# Altium footprint library Footprint.PcbLib: 240 footprints (part 14 of 15)
Each footprint in its own frame and in the unit in brackets; x right, y up, seen from the top. Pads: shape width x height; smd on the part's side, far side on the other; paste and mask are expansions set on the pad; w line width, h text height; cw(c..) or ccw(c..) is an arc to the next point about the centre after c.
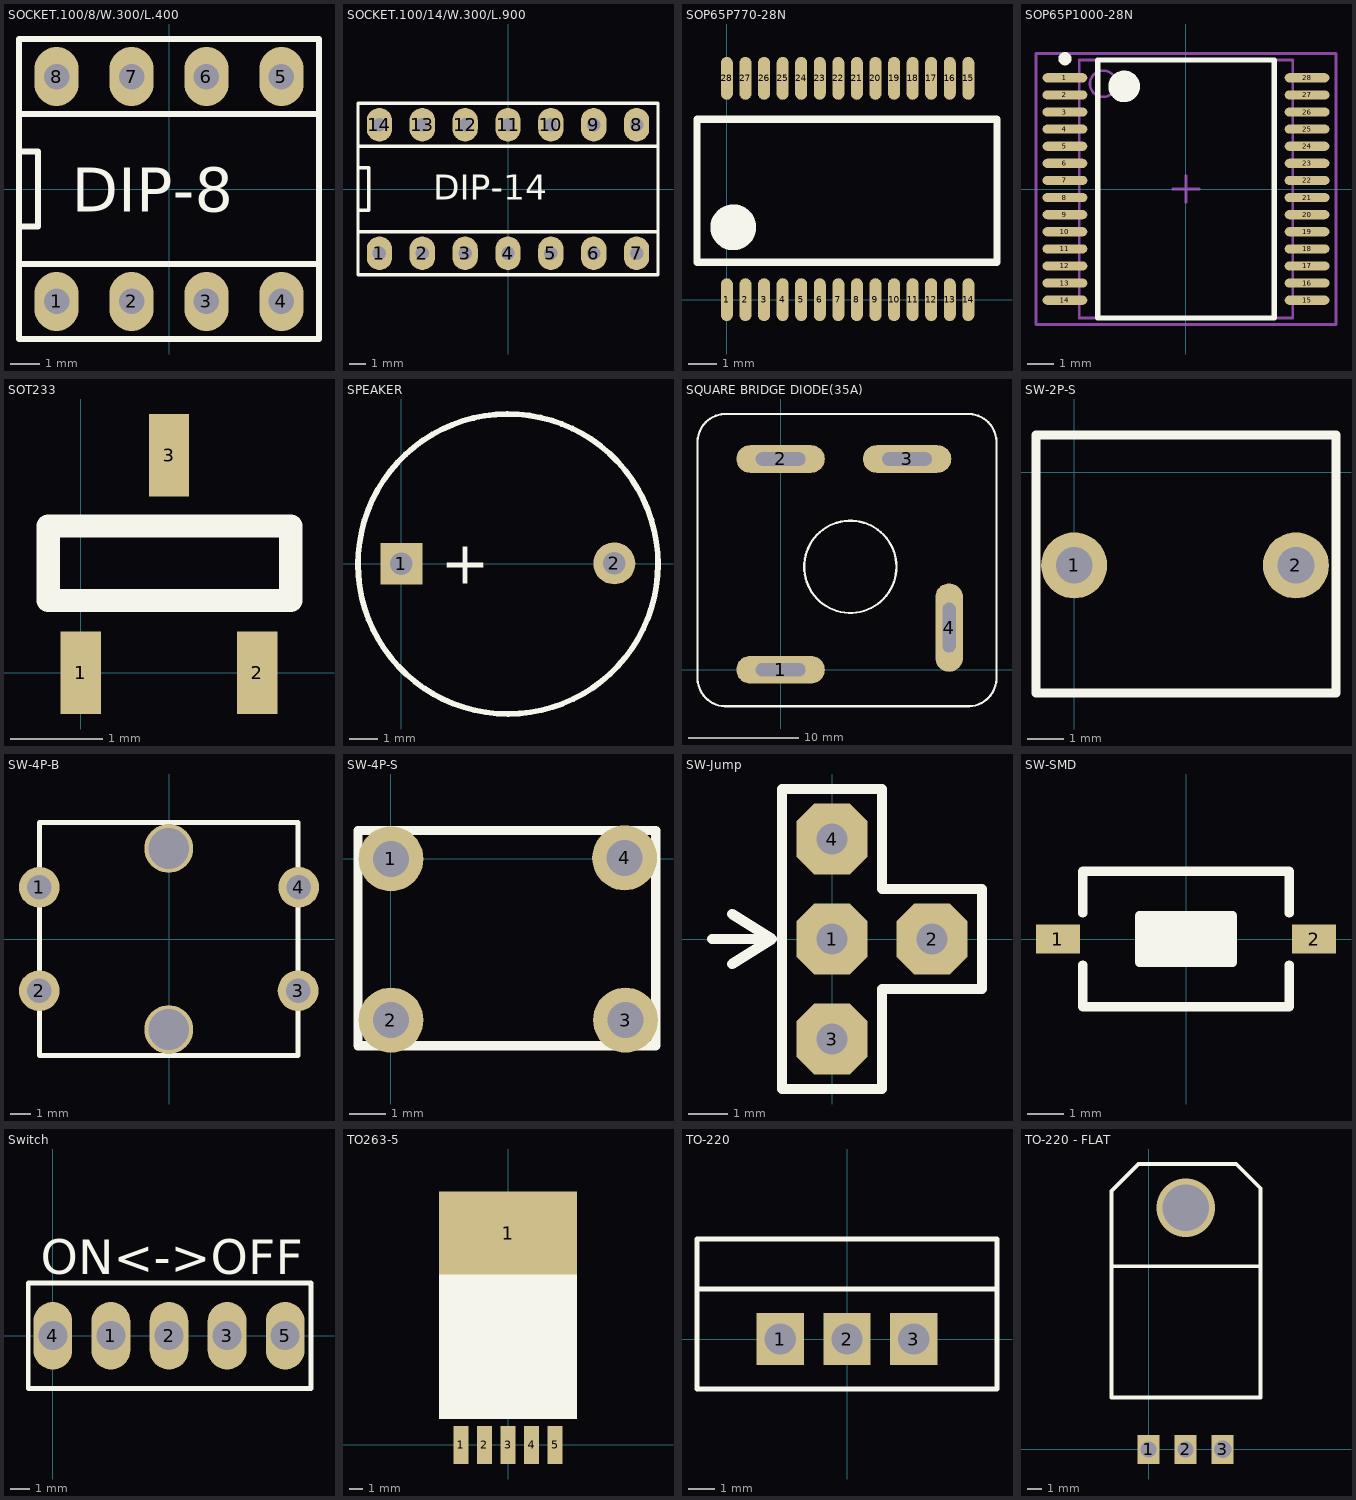
[diagram p13: the footprints below, top view; thin cyan lines are the x and y axes]

## SOCKET.100/8/W.300/L.400 [mm]
pads (8):
  oval 1.5x2 hole 0.864: 1(-3.81,-3.81) 2(-1.27,-3.81) 3(1.27,-3.81) 4(3.81,-3.81) 5(3.81,3.81) 6(1.27,3.81) 7(-1.27,3.81) 8(-3.81,3.81)
Top Overlay:
  lines w0.203: -5.08,-2.54 -5.08,-1.27 ; -5.08,-2.54 -5.08,-5.08 5.08,-5.08 5.08,2.54 ; -5.08,-2.54 -5.08,2.54 ; -5.08,-2.54 5.08,-2.54 ; -5.08,-2.54 -5.08,2.54 ; -5.08,-2.54 5.08,-2.54 ; -5.08,-1.27 -5.08,1.27 ; -5.08,-1.27 -4.445,-1.27 ; -5.08,-1.27 -4.445,-1.27 ; -5.08,1.27 -5.08,5.08 5.08,5.08 5.08,2.54 ; -5.08,1.27 -4.445,1.27 ; -5.08,1.27 -4.445,1.27 ; -5.08,2.54 5.08,2.54 ; -5.08,2.54 5.08,2.54 ; -4.445,-1.27 -4.445,1.27 ; -4.445,-1.27 -4.445,1.27 ; 5.08,-2.54 5.08,2.54 ; 5.08,-2.54 5.08,2.54
  text "DIP-8" at -3.302,-0.762 h1.5
3D body: height 4.5, standoff -3.09, extent -5.08,-5.08 5.08,5.08

## SOCKET.100/14/W.300/L.900 [mm]
height 5.59
pads (14):
  oval 1.5x2 hole 0.8: 1(-7.62,-3.81) 2(-5.08,-3.81) 3(-2.54,-3.81) 4(0,-3.81) 5(2.54,-3.81) 6(5.08,-3.81) 7(7.62,-3.81) 8(7.62,3.81) 9(5.08,3.81) 10(2.54,3.81) 11(0,3.81) 12(-2.54,3.81) 13(-5.08,3.81) 14(-7.62,3.81)
Top Overlay:
  lines w0.203: -8.89,-2.54 8.89,-2.54 ; -8.89,-2.54 8.89,-2.54 ; -8.89,-2.54 -8.89,-1.27 ; -8.89,-2.54 -8.89,-1.27 ; -8.89,-1.27 -8.89,1.27 ; -8.89,-1.27 -8.255,-1.27 ; -8.89,-1.27 -8.89,1.27 ; -8.89,-1.27 -8.255,-1.27 ; -8.89,1.27 -8.89,2.54 ; -8.89,1.27 -8.255,1.27 ; -8.89,1.27 -8.89,2.54 ; -8.89,1.27 -8.255,1.27 ; -8.89,2.54 8.89,2.54 ; -8.89,2.54 8.89,2.54 ; -8.255,-1.27 -8.255,1.27 ; -8.255,-1.27 -8.255,1.27 ; 8.89,-2.54 8.89,2.54 ; -8.89,-5.08 -8.89,5.08 8.89,5.08 8.89,-5.08 -8.89,-5.08
  text "DIP-14" at -4.445,-0.635 h1.5
3D body: height 4.5, standoff -3.09, extent -8.89,-5.08 8.89,5.08

## SOP65P770-28N [mil]
pads (28):
  oval 16.53x59.03 smd mask+7.9: 1(0,0) 2(25.6,0) 3(51.18,0) 4(76.78,0) 5(102.37,0) 6(127.97,0) 7(153.57,0) 8(179.15,0) 9(204.75,0) 10(230.35,0) 11(255.93,0) 12(281.53,0) 13(307.12,0) 14(332.7,0) 15(332.7,305) 16(307.12,305) 17(281.53,305) 18(255.93,305) 19(230.35,305) 20(204.75,305) 21(179.15,305) 22(153.57,305) 23(127.97,305) 24(102.37,305) 25(76.78,305) 26(51.18,305) 27(25.6,305) 28(0,305)
Top Overlay:
  circle w39.37: c8.8,99.7 r11.88
  lines w10: -41.22,51.66 372.21,51.66 372.21,248.53 -41.22,248.53 -41.22,51.66
3D body: height 84.65, standoff 0, extent -37.01,0.01 369.69,305.35

## SOP65P1000-28N [mm] "SOP, 28-Leads, Body 9.7x8mm, Pitch 0.65mm, IPC Medium Density"
height 2
pads (28):
  oval 1.7x0.35 smd: 1(-4.6,4.225) 2(-4.6,3.575) 3(-4.6,2.925) 4(-4.6,2.275) 5(-4.6,1.625) 6(-4.6,0.975) 7(-4.6,0.325) 8(-4.6,-0.325) 9(-4.6,-0.975) 10(-4.6,-1.625) 11(-4.6,-2.275) 12(-4.6,-2.925) 13(-4.6,-3.575) 14(-4.6,-4.225) 15(4.6,-4.225) 16(4.6,-3.575) 17(4.6,-2.925) 18(4.6,-2.275) 19(4.6,-1.625) 20(4.6,-0.975) 21(4.6,-0.325) 22(4.6,0.325) 23(4.6,0.975) 24(4.6,1.625) 25(4.6,2.275) 26(4.6,2.925) 27(4.6,3.575) 28(4.6,4.225)
Top Overlay:
  circle w0.25: c-4.6,4.95 r0.125
  circle w0.6: c-2.35,3.9 r0.3
  lines w0.2: -3.35,-4.9 -3.35,4.9 3.35,4.9 3.35,-4.9 -3.35,-4.9
Mechanical 13:
  circle w0.1: c-3.15,4 r0.5
  lines w0.1: -4.05,-4.9 -4.05,4.9 4.05,4.9 4.05,-4.9 -4.05,-4.9
Mechanical 15:
  lines w0.1: -0.5,0 0.5,0 ; 0,-0.5 0,0.5 ; -5.7,-5.15 -5.7,5.15 5.7,5.15 5.7,-5.15 -5.7,-5.15
3D body: height 2, standoff 0, extent -4.05,-4.9 4.05,4.9

## SOT233 [mm]
pads (3):
  rect 0.44x0.9 smd: 1(0,0) 2(1.92,0) 3(0.96,2.37)
Top Overlay:
  lines w0.254: -0.356,0.787 -0.356,1.6 2.286,1.6 2.286,0.787 -0.356,0.787
3D body: height 1.04, standoff 0.02, extent -0.495,-0.051 2.425,2.425

## SPEAKER [mm]
pads (2):
  rect 1.5x1.5 hole 0.8: 1(0,0)
  round 1.5 hole 0.8: 2(7.62,0.013)
Top Overlay:
  lines w0.203: 7.724,3.67 ccw(c3.816,-0.008) 7.76,3.632
  text "+" at 1.41,-0.711 h1.52
3D body: height 4.5, standoff -9.65, extent -2.215,-6 13.239,6

## SQUARE BRIDGE DIODE(35A) [mm]
pads (4):
  oval 8x2.5 hole 1.2 slot 4.5 at 0 deg: 1(0,0) 2(0,19.05) 3(11.43,19.05)
  oval 2.5x8 hole 1.2 slot 4.5 at 90 deg: 4(15.24,3.81)
Top Overlay:
  circle w0.2: c6.303,9.304 r4.17
  lines w0.2: -7.504,-0.6 ccw(c-4.952,-0.75) -4.802,-3.302 16.808,-3.302 ccw(c16.958,-0.75) 19.509,-0.6 19.509,20.41 ccw(c16.958,20.56) 16.808,23.111 -4.802,23.111 ccw(c-4.952,20.56) -7.504,20.41 -7.504,-0.6
3D body: height 8.05, standoff -11, extent -8.281,-4.217 20.219,24.283

## SW-2P-S [mm]
height 5.59
pads (2):
  round 1.8 hole 1: 1(0,-2.54) 2(6.045,-2.54)
Top Overlay:
  lines w0.254: -1.041,-6.02 -1.041,1.016 7.137,1.016 7.137,-6.02 -1.041,-6.02

## SW-4P-B [mm] "Nut bam lon"
pads (6):
  round 2 hole 1.2: 1(-6.375,2.54) 2(-6.375,-2.54) 3(6.325,-2.54) 4(6.35,2.54)
  round 2.4 hole 2: ""(-0.025,-4.445) ""(-0.025,4.445)
Top Overlay:
  lines w0.254: -6.375,-5.715 6.325,-5.715 6.325,5.715 -6.375,5.715 -6.375,-5.715
3D body: height 9.5, standoff -3.5, extent -6.936,-6 6.937,6

## SW-4P-S [mm]
height 5.59
pads (4):
  round 1.8 hole 1: 1(0,0) 2(0,-4.47) 3(6.502,-4.47) 4(6.477,0.025)
Top Overlay:
  lines w0.254: -0.914,-5.182 7.341,-5.182 7.341,0.787 6.934,0.787 -0.914,0.787 -0.914,-5.182
3D body: height 9.52, standoff -3.48, extent -0.864,-5.235 7.348,0.765

## SW-Jump [mm]
pads (4):
  oct 1.8x1.8 hole 0.8: 1(0,0) 2(2.54,0) 3(0,-2.54) 4(0,2.54)
Top Overlay:
  lines w0.254: -3.048,0 -1.524,0 ; -2.54,-0.635 -1.524,0 ; -2.54,0.635 -1.524,0 ; -1.27,-3.81 1.27,-3.81 1.27,-1.27 3.81,-1.27 3.81,1.27 1.27,1.27 1.27,3.81 -1.27,3.81 -1.27,-1.27 -1.27,1.27 -1.27,-3.81

## SW-SMD [mm] "Switch SMD type"
pads (2):
  rect 1.2x0.8 smd: 1(-3.5,0) 2(3.5,0)
Top Overlay:
  rectangle: -1.27,-0.635 1.27,0.635
  lines w0.254: -2.819,-0.711 -2.819,-1.854 2.819,-1.854 2.819,-0.711 ; -2.819,0.711 -2.819,1.854 2.819,1.854 2.819,0.711 ; -1.27,-0.635 1.27,-0.635 1.27,0.635 -1.27,0.635 -1.27,-0.635
3D body: height 2.5, standoff 0, extent -3.05,-1.85 3.05,1.85

## Switch [mm]
pads (5):
  oval 2x3.5 hole 1.5: 1(3,0) 2(6,0) 3(9,0) 4(0,0) 5(12,0)
Top Overlay:
  lines w0.254: -1.27,-2.73 13.335,-2.73 13.335,2.73 -1.27,2.73 -1.27,-2.73
  text "ON<->OFF" at -0.635,3.175 h1.8
3D body: height 2.6, standoff -6, extent -0.5,-2.85 12.5,9.35

## TO263-5 [mm] "LM2576-SMD"
pads (6):
  rect 1.07x2.75 smd: 1(-3.4,-0.025) 2(-1.7,-0.025) 3(0,-0.025) 4(1.7,-0.025) 5(3.4,-0.025)
  rect 10x6 smd: 1(0,15.289)
Top Overlay:
  rectangle: -5,1.854 5,12.878
3D body: height 4.79, standoff -0.01, extent -5,-0.381 5,15.289

## TO-220 [mm]
pads (3):
  rect 1.8x2 hole 1.2: 1(-2.54,0) 2(0,0) 3(2.54,0)
Top Overlay:
  lines w0.2: -5.715,1.905 5.715,1.905 ; -5.715,-1.905 -5.715,2.54 -5.715,3.81 5.715,3.81 5.715,-1.905 -5.715,-1.905
3D body: height 8.08, standoff -20.7, extent -4.925,-2.134 4.975,2.366

## TO-220 - FLAT [mm]
pads (3):
  rect 1.5x2 hole 1.1: 1(0,0) 2(2.54,0)
  rect 1.5x2 hole 1.2: 3(5.08,0)
via 2.54,16.562 diameter 4 hole 3.2
Top Overlay:
  lines w0.254: -2.54,5.861 -2.54,17.71 -0.686,19.564 6.007,19.564 7.671,17.901 7.671,3.562 -2.54,3.562 -2.54,12.554 7.671,12.554
3D body: height 4.45, standoff -1.79, extent -2.54,-0.19 7.62,19.09